# EAGLE library part TS30012-M050QFNR (library SamacSys_Parts)
Switching Voltage Regulators IC Hi-Eff 2Amp DC/DC Conv 1MHz 5V Outpt Source: Datasheet <https://www.semtech.com/uploads/documents/ts30011_12_13.pdf>
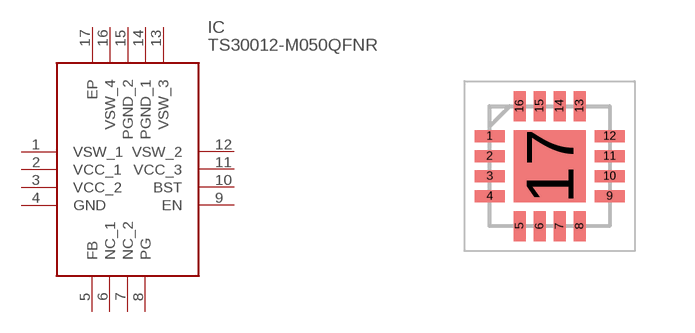
[diagram p0: symbol with the pads of QFN50P300X300X100-17N; footprint QFN50P300X300X100-17N]

Designator prefix IC

## TS30012-M050QFNR (Description: Switching Voltage Regulators IC Hi-Eff 2Amp DC/DC Conv 1MHz 5V Outpt; Height: 1mm; Manufacturer_Name: SEMTECH; Manufacturer_Part_Number: TS30012-M050QFNR; Mouser_Part_Number: 947-TS30012-M050QFNR; Mouser_Price-Stock: https://www.mouser.com/Search/Refine.aspx?Keyword=947-TS30012-M050QFNR)  [QFN50P300X300X100-17N]
1  VSW_1
2  VCC_1
3  VCC_2
4  GND
5  FB
6  NC_1
7  NC_2
8  PG
9  EN
10  BST
11  VCC_3
12  VSW_2
13  VSW_3
14  PGND_1
15  PGND_2
16  VSW_4
17  EP

## Footprint QFN50P300X300X100-17N (pad centres in mm)
QFN16_1
smd 0.75 x 0.3: 1 -1.5,0.75; 2 -1.5,0.25; 3 -1.5,-0.25; 4 -1.5,-0.75; 9 1.5,-0.75; 10 1.5,-0.25; 11 1.5,0.25; 12 1.5,0.75
smd 0.3 x 0.75: 5 -0.75,-1.5; 6 -0.25,-1.5; 7 0.25,-1.5; 8 0.75,-1.5; 13 0.75,1.5; 14 0.25,1.5; 15 -0.25,1.5; 16 -0.75,1.5
smd 1.8 x 1.8: 17 0,0